# Altium footprint library 14A.PcbLib: 1 footprints
Each footprint in its own frame and in the unit in brackets; x right, y up, seen from the top. Pads: shape width x height; smd on the part's side, far side on the other; paste and mask are expansions set on the pad; w line width, h text height; cw(c..) or ccw(c..) is an arc to the next point about the centre after c.
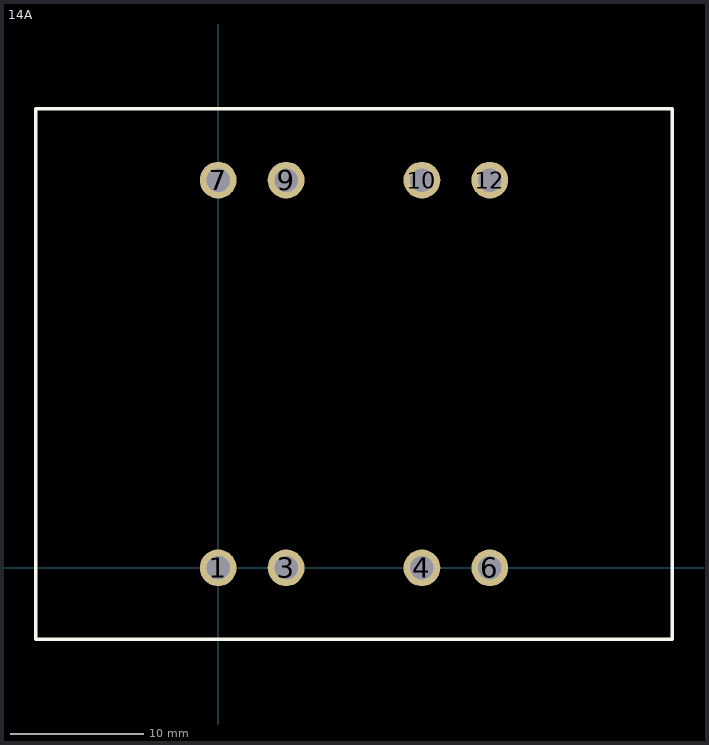
[diagram p0: the footprint, top view; thin cyan lines are the x and y axes]

## 14A [mm] "10W 115/220V Transformer"
height 34.9
pads (8):
  round 2.75 hole 1.75: 1(0,0) 3(5.08,0) 4(15.24,0) 6(20.32,0) 7(0,29) 9(5.08,29) 10(15.24,29) 12(20.32,29)
Top Overlay:
  lines w0.254: -13.64,-5.35 33.96,-5.35 33.96,34.35 -13.64,34.35 -13.64,-5.35
3D body: height 34.9, standoff 0, extent -13.767,-5.477 34.087,34.477